# Altium footprint library PCB - POWER INDUCTORS - WURTH WE-XHMI 6060.PcbLib: 1 footprints
Each footprint in its own frame and in the unit in brackets; x right, y up, seen from the top. Pads: shape width x height; smd on the part's side, far side on the other; paste and mask are expansions set on the pad; w line width, h text height; cw(c..) or ccw(c..) is an arc to the next point about the centre after c.
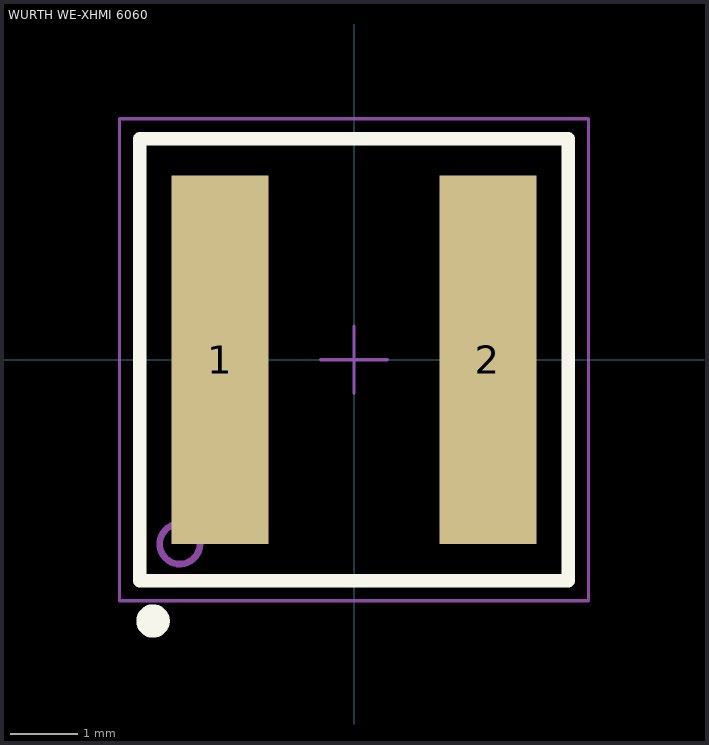
[diagram p0: the footprint, top view; thin cyan lines are the x and y axes]

## WURTH WE-XHMI 6060 [mm] "SMT Power Inductor, 2-Leads, body 6.65x6.45mm"
height 5.8
pads (2):
  rect 1.45x5.5 smd: 1(-2,0) 2(2,0)
Top Overlay:
  circle w0.25: c-3,-3.9 r0.125
  lines w0.2: -3.2,-3.3 -3.2,3.3 3.2,3.3 3.2,-3.3 -3.2,-3.3
Top Assembly:
  circle w0.1: c-2.6,-2.75 r0.3
  lines w0.05: -0.5,0 0.5,0 ; 0,-0.5 0,0.5
  lines w0.1: -3.225,-3.325 -3.225,3.325 3.225,3.325 3.225,-3.325 -3.225,-3.325
Top Component Outline:
  circle w0.1: c-2.6,-2.75 r0.3
  lines w0.1: -3.225,-3.325 3.225,-3.325 3.225,3.325 -3.225,3.325 -3.225,-3.325
Top Courtyard:
  lines w0.05: -3.5,-3.6 -3.5,3.6 3.5,3.6 3.5,-3.6 -3.5,-3.6
3D body "74439346xxx.stp": height 5.8, standoff 0, extent -3.225,-3.325 3.225,3.325